# EAGLE library part ATMEGA168 (library Atmel)
Atmel ATmega48-88-168-328 AVR Microcontroller
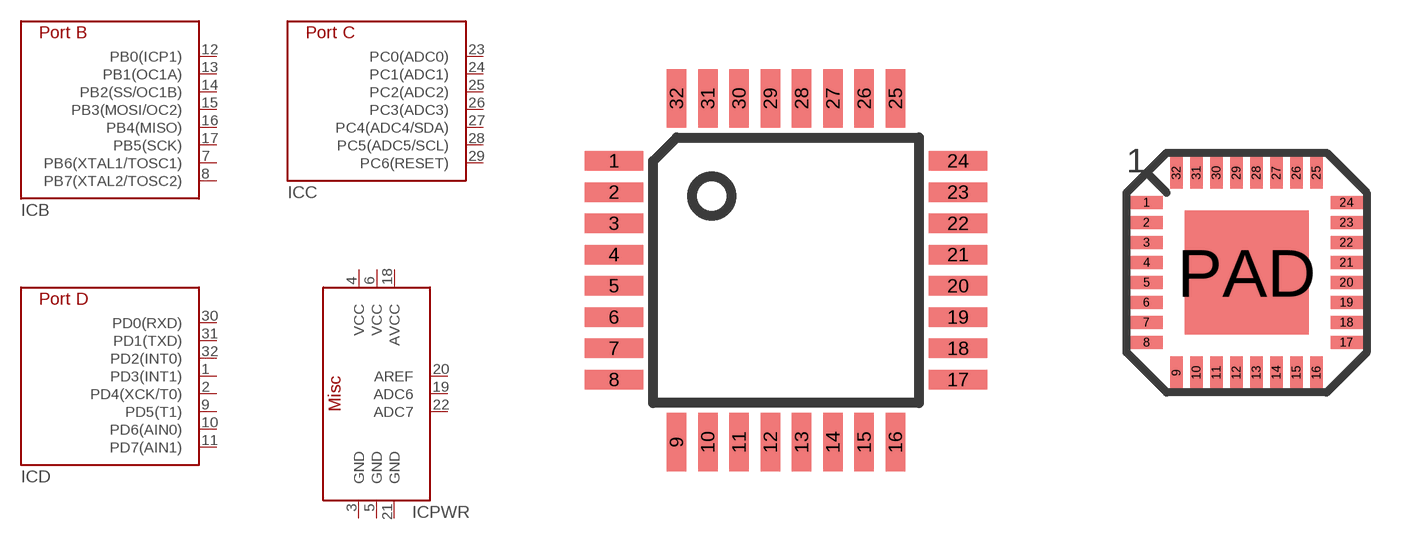
[diagram p2: symbol with the pads of TQFP32-32A; footprints TQFP32-32A, MLF32-32M1-A]

Designator prefix IC; gates B=ATMEGA168-B C=ATMEGA168-C D=ATMEGA168-D PWR=ATMEGA168-MISC

## ATMEGA168-AU  [TQFP32-32A]
1  D:PD3(INT1)
2  D:PD4(XCK/T0)
3  PWR:GND  pwr
4  PWR:VCC  pwr
5  PWR:GND  pwr
6  PWR:VCC  pwr
7  B:PB6(XTAL1/TOSC1)
8  B:PB7(XTAL2/TOSC2)
9  D:PD5(T1)
10  D:PD6(AIN0)
11  D:PD7(AIN1)
12  B:PB0(ICP1)
13  B:PB1(OC1A)
14  B:PB2(SS/OC1B)
15  B:PB3(MOSI/OC2)
16  B:PB4(MISO)
17  B:PB5(SCK)
18  PWR:AVCC  pwr
19  PWR:ADC6
20  PWR:AREF
21  PWR:GND  pwr
22  PWR:ADC7
23  C:PC0(ADC0)
24  C:PC1(ADC1)
25  C:PC2(ADC2)
26  C:PC3(ADC3)
27  C:PC4(ADC4/SDA)
28  C:PC5(ADC5/SCL)
29  C:PC6(RESET)
30  D:PD0(RXD)
31  D:PD1(TXD)
32  D:PD2(INT0)

## ATMEGA168-MU  [MLF32-32M1-A]
Pads as for TQFP32-32A

## Footprint TQFP32-32A (pad centres in mm)
32A, 32-lead, 7x7x1.0mm Body Size, 0.8mm lead pitch, Thin Profile Quad Flat Package (TQFP)
smd 1.5 x 0.5: 1 -4.4,2.8; 2 -4.4,2; 3 -4.4,1.2; 4 -4.4,0.4; 5 -4.4,-0.4; 6 -4.4,-1.2; 7 -4.4,-2; 8 -4.4,-2.8; 17 4.4,-2.8; 18 4.4,-2; 19 4.4,-1.2; 20 4.4,-0.4; 21 4.4,0.4; 22 4.4,1.2; 23 4.4,2; 24 4.4,2.8
smd 0.5 x 1.5: 9 -2.8,-4.4; 10 -2,-4.4; 11 -1.2,-4.4; 12 -0.4,-4.4; 13 0.4,-4.4; 14 1.2,-4.4; 15 2,-4.4; 16 2.8,-4.4; 25 2.8,4.4; 26 2,4.4; 27 1.2,4.4; 28 0.4,4.4; 29 -0.4,4.4; 30 -1.2,4.4; 31 -2,4.4; 32 -2.8,4.4

## Footprint MLF32-32M1-A (pad centres in mm)
32M1-A, 32-pad, 5x5x1.0mm Body, Lead Pitch 0.50mm, 3.10mm exposed pad, Micro Lead Frame (MLF)
smd 0.8 x 0.32: 1 -2.5,1.75; 2 -2.5,1.25; 3 -2.5,0.75; 4 -2.5,0.25; 5 -2.5,-0.25; 6 -2.5,-0.75; 7 -2.5,-1.25; 8 -2.5,-1.75; 17 2.5,-1.75; 18 2.5,-1.25; 19 2.5,-0.75; 20 2.5,-0.25; 21 2.5,0.25; 22 2.5,0.75; 23 2.5,1.25; 24 2.5,1.75
smd 0.32 x 0.8: 9 -1.75,-2.5; 10 -1.25,-2.5; 11 -0.75,-2.5; 12 -0.25,-2.5; 13 0.25,-2.5; 14 0.75,-2.5; 15 1.25,-2.5; 16 1.75,-2.5; 25 1.75,2.5; 26 1.25,2.5; 27 0.75,2.5; 28 0.25,2.5; 29 -0.25,2.5; 30 -0.75,2.5; 31 -1.25,2.5; 32 -1.75,2.5
smd 3.1 x 3.1: PAD 0,0